# Altium footprint library Connector_Wire.PcbLib: 290 footprints (part 13 of 19)
Each footprint in its own frame and in the unit in brackets; x right, y up, seen from the top. Pads: shape width x height; smd on the part's side, far side on the other; paste and mask are expansions set on the pad; w line width, h text height; cw(c..) or ccw(c..) is an arc to the next point about the centre after c.
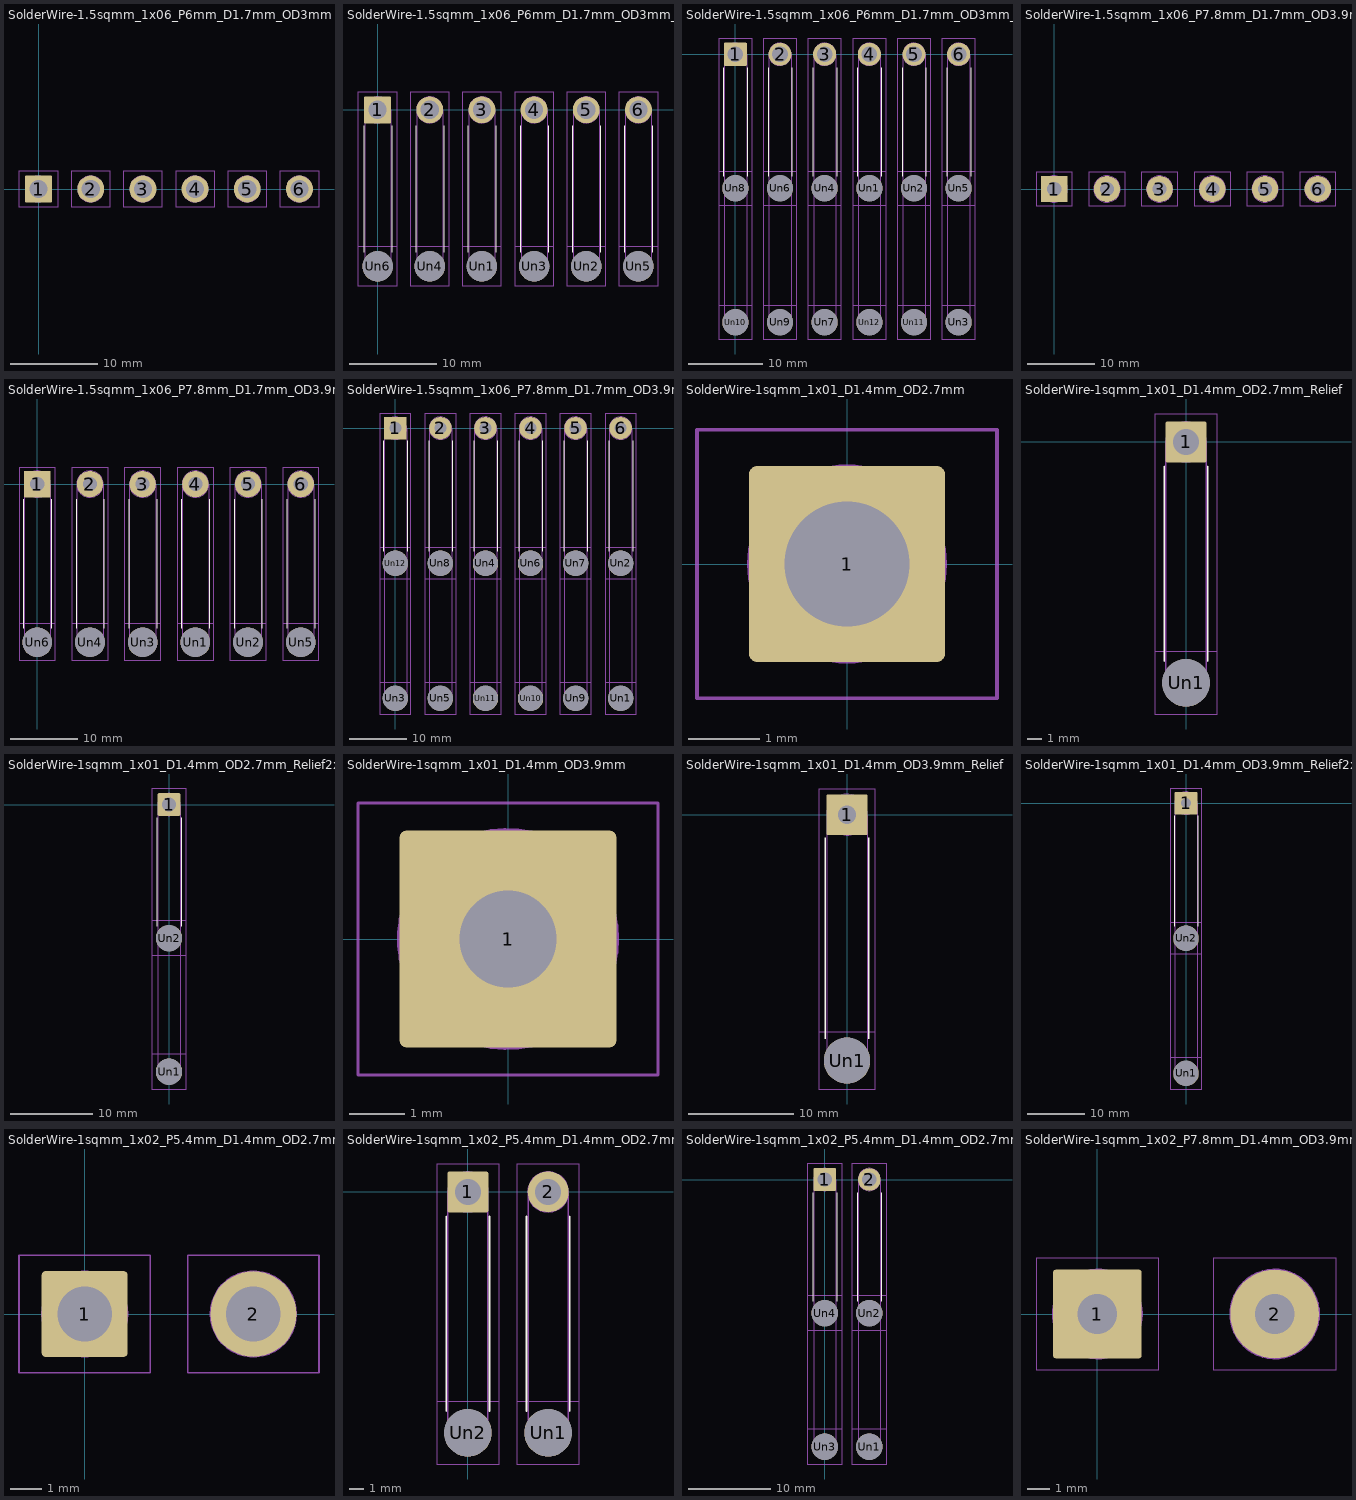
[diagram p12: the footprints below, top view; thin cyan lines are the x and y axes]

## SolderWire-1.5sqmm_1x06_P6mm_D1.7mm_OD3mm [mm]
pads (6):
  rrect8% 3.1x3.1 hole 2.1: 1(0,0)
  round 3.1 hole 2.1: 2(6,0) 3(12,0) 4(18,0) 5(24,0) 6(30,0)
F.CrtYd:
  lines w0.05: -2.25,-2.05 2.25,-2.05 2.25,2.05 -2.25,2.05 -2.25,-2.05 ; 3.75,-2.05 8.25,-2.05 8.25,2.05 3.75,2.05 3.75,-2.05 ; 9.75,-2.05 9.75,2.05 14.25,2.05 14.25,-2.05 9.75,-2.05 ; 15.75,-2.05 20.25,-2.05 20.25,2.05 15.75,2.05 15.75,-2.05 ; 21.75,-2.05 26.25,-2.05 26.25,2.05 21.75,2.05 21.75,-2.05 ; 27.75,-2.05 32.25,-2.05 32.25,2.05 27.75,2.05 27.75,-2.05
F.Fab:
  circle w0.1: c0,0 r1.5
  circle w0.1: c30,0 r1.5
  circle w0.1: c24,0 r1.5
  circle w0.1: c12,0 r1.5
  circle w0.1: c6,0 r1.5
  circle w0.1: c18,0 r1.5
  text "'.Designator'" at 15.84,-4.047 h1

## SolderWire-1.5sqmm_1x06_P6mm_D1.7mm_OD3mm_Relief [mm]
pads (12):
  rrect8% 3.1x3.1 hole 2.1: 1(0,0)
  round 3.1 hole 2.1: 2(6,0) 3(12,0) 4(18,0) 5(24,0) 6(30,0)
  round 3.5 hole 3.5: Un1(12,-18) Un2(24,-18) Un3(18,-18) Un4(6,-18) Un5(30,-18) Un6(0,-18)
F.SilkS:
  lines w0.12: -1.61,-16.39 -1.61,-1.81 ; 1.61,-16.39 1.61,-1.81 ; 4.39,-16.39 4.39,-1.81 ; 7.61,-16.39 7.61,-1.81 ; 10.39,-16.39 10.39,-1.81 ; 13.61,-16.39 13.61,-1.81 ; 16.39,-16.39 16.39,-1.81 ; 19.61,-16.39 19.61,-1.81 ; 22.39,-16.39 22.39,-1.81 ; 25.61,-16.39 25.61,-1.81 ; 28.39,-16.39 28.39,-1.81 ; 31.61,-16.39 31.61,-1.81
B.CrtYd:
  lines w0.05: -2.25,-20.25 -2.25,-15.75 2.25,-15.75 2.25,-20.25 -2.25,-20.25 ; 3.75,-20.25 8.25,-20.25 8.25,-15.75 3.75,-15.75 3.75,-20.25 ; 9.75,-20.25 9.75,-15.75 14.25,-15.75 14.25,-20.25 9.75,-20.25 ; 15.75,-20.25 20.25,-20.25 20.25,-15.75 15.75,-15.75 15.75,-20.25 ; 21.75,-20.25 26.25,-20.25 26.25,-15.75 21.75,-15.75 21.75,-20.25 ; 27.75,-20.25 32.25,-20.25 32.25,-15.75 27.75,-15.75 27.75,-20.25
F.CrtYd:
  lines w0.05: -2.25,-20.25 2.25,-20.25 2.25,2.05 -2.25,2.05 -2.25,-20.25 ; 3.75,-20.25 3.75,2.05 8.25,2.05 8.25,-20.25 3.75,-20.25 ; 9.75,-20.25 14.25,-20.25 14.25,2.05 9.75,2.05 9.75,-20.25 ; 15.75,-20.25 15.75,2.05 20.25,2.05 20.25,-20.25 15.75,-20.25 ; 21.75,-20.25 21.75,2.05 26.25,2.05 26.25,-20.25 21.75,-20.25 ; 27.75,-20.25 32.25,-20.25 32.25,2.05 27.75,2.05 27.75,-20.25
F.Fab:
  circle w0.1: c18,0 r1.5
  circle w0.1: c12,-18 r1.5
  circle w0.1: c6,-18 r1.5
  circle w0.1: c12,0 r1.5
  circle w0.1: c6,0 r1.5
  circle w0.1: c0,0 r1.5
  circle w0.1: c30,0 r1.5
  circle w0.1: c24,-18 r1.5
  circle w0.1: c18,-18 r1.5
  circle w0.1: c0,-18 r1.5
  circle w0.1: c24,0 r1.5
  circle w0.1: c30,-18 r1.5
  lines w0.1: -1.5,-18 -1.5,0 ; 1.5,-18 1.5,0 ; 4.5,-18 4.5,0 ; 7.5,-18 7.5,0 ; 10.5,-18 10.5,0 ; 13.5,-18 13.5,0 ; 16.5,-18 16.5,0 ; 19.5,-18 19.5,0 ; 22.5,-18 22.5,0 ; 25.5,-18 25.5,0 ; 28.5,-18 28.5,0 ; 31.5,-18 31.5,0
  text "'.Designator'" at 15.84,-13.047 h1

## SolderWire-1.5sqmm_1x06_P6mm_D1.7mm_OD3mm_Relief2x [mm]
pads (18):
  rrect8% 3.1x3.1 hole 2.1: 1(0,0)
  round 3.1 hole 2.1: 2(6,0) 3(12,0) 4(18,0) 5(24,0) 6(30,0)
  round 3.5 hole 3.5: Un1(18,-18) Un2(24,-18) Un3(30,-36) Un4(12,-18) Un5(30,-18) Un6(6,-18) Un7(12,-36) Un8(0,-18) Un9(6,-36) Un10(0,-36) Un11(24,-36) Un12(18,-36)
F.SilkS:
  lines w0.12: -1.61,-16.39 -1.61,-1.81 ; 1.61,-16.39 1.61,-1.81 ; 4.39,-16.39 4.39,-1.81 ; 7.61,-16.39 7.61,-1.81 ; 10.39,-16.39 10.39,-1.81 ; 13.61,-16.39 13.61,-1.81 ; 16.39,-16.39 16.39,-1.81 ; 19.61,-16.39 19.61,-1.81 ; 22.39,-16.39 22.39,-1.81 ; 25.61,-16.39 25.61,-1.81 ; 28.39,-16.39 28.39,-1.81 ; 31.61,-16.39 31.61,-1.81
B.SilkS:
  lines w0.12: -1.61,-34.39 -1.61,-19.61 ; 1.61,-34.39 1.61,-19.61 ; 4.39,-34.39 4.39,-19.61 ; 7.61,-34.39 7.61,-19.61 ; 10.39,-34.39 10.39,-19.61 ; 13.61,-34.39 13.61,-19.61 ; 16.39,-34.39 16.39,-19.61 ; 19.61,-34.39 19.61,-19.61 ; 22.39,-34.39 22.39,-19.61 ; 25.61,-34.39 25.61,-19.61 ; 28.39,-34.39 28.39,-19.61 ; 31.61,-34.39 31.61,-19.61
B.CrtYd:
  lines w0.05: -2.25,-38.25 2.25,-38.25 2.25,-15.75 -2.25,-15.75 -2.25,-38.25 ; 3.75,-38.25 3.75,-15.75 8.25,-15.75 8.25,-38.25 3.75,-38.25 ; 9.75,-38.25 14.25,-38.25 14.25,-15.75 9.75,-15.75 9.75,-38.25 ; 15.75,-38.25 20.25,-38.25 20.25,-15.75 15.75,-15.75 15.75,-38.25 ; 21.75,-38.25 26.25,-38.25 26.25,-15.75 21.75,-15.75 21.75,-38.25 ; 27.75,-38.25 27.75,-15.75 32.25,-15.75 32.25,-38.25 27.75,-38.25
F.CrtYd:
  lines w0.05: -2.25,-38.25 2.25,-38.25 2.25,-33.75 -2.25,-33.75 -2.25,-38.25 ; -2.25,-20.25 -2.25,2.05 2.25,2.05 2.25,-20.25 -2.25,-20.25 ; 3.75,-38.25 8.25,-38.25 8.25,-33.75 3.75,-33.75 3.75,-38.25 ; 3.75,-20.25 8.25,-20.25 8.25,2.05 3.75,2.05 3.75,-20.25 ; 9.75,-38.25 14.25,-38.25 14.25,-33.75 9.75,-33.75 9.75,-38.25 ; 9.75,-20.25 14.25,-20.25 14.25,2.05 9.75,2.05 9.75,-20.25 ; 15.75,-38.25 20.25,-38.25 20.25,-33.75 15.75,-33.75 15.75,-38.25 ; 15.75,-20.25 20.25,-20.25 20.25,2.05 15.75,2.05 15.75,-20.25 ; 21.75,-38.25 26.25,-38.25 26.25,-33.75 21.75,-33.75 21.75,-38.25 ; 21.75,-20.25 26.25,-20.25 26.25,2.05 21.75,2.05 21.75,-20.25 ; 27.75,-38.25 27.75,-33.75 32.25,-33.75 32.25,-38.25 27.75,-38.25 ; 27.75,-20.25 27.75,2.05 32.25,2.05 32.25,-20.25 27.75,-20.25
B.Fab:
  circle w0.1: c12,-36 r1.5
  circle w0.1: c6,-18 r1.5
  circle w0.1: c18,-36 r1.5
  circle w0.1: c24,-36 r1.5
  circle w0.1: c6,-36 r1.5
  circle w0.1: c18,-18 r1.5
  circle w0.1: c0,-36 r1.5
  circle w0.1: c30,-36 r1.5
  circle w0.1: c24,-18 r1.5
  circle w0.1: c12,-18 r1.5
  circle w0.1: c0,-18 r1.5
  circle w0.1: c30,-18 r1.5
  lines w0.1: -1.5,-36 -1.5,-18 ; 1.5,-36 1.5,-18 ; 4.5,-36 4.5,-18 ; 7.5,-36 7.5,-18 ; 10.5,-36 10.5,-18 ; 13.5,-36 13.5,-18 ; 16.5,-36 16.5,-18 ; 19.5,-36 19.5,-18 ; 22.5,-36 22.5,-18 ; 25.5,-36 25.5,-18 ; 28.5,-36 28.5,-18 ; 31.5,-36 31.5,-18
F.Fab:
  circle w0.1: c24,0 r1.5
  circle w0.1: c18,0 r1.5
  circle w0.1: c12,-36 r1.5
  circle w0.1: c30,-18 r1.5
  circle w0.1: c0,-18 r1.5
  circle w0.1: c6,-36 r1.5
  circle w0.1: c30,-36 r1.5
  circle w0.1: c6,-18 r1.5
  circle w0.1: c0,-36 r1.5
  circle w0.1: c0,0 r1.5
  circle w0.1: c6,0 r1.5
  circle w0.1: c24,-36 r1.5
  circle w0.1: c24,-18 r1.5
  circle w0.1: c18,-36 r1.5
  circle w0.1: c12,-18 r1.5
  circle w0.1: c30,0 r1.5
  circle w0.1: c18,-18 r1.5
  circle w0.1: c12,0 r1.5
  lines w0.1: -1.5,-18 -1.5,0 ; 1.5,-18 1.5,0 ; 4.5,-18 4.5,0 ; 7.5,-18 7.5,0 ; 10.5,-18 10.5,0 ; 13.5,-18 13.5,0 ; 16.5,-18 16.5,0 ; 19.5,-18 19.5,0 ; 22.5,-18 22.5,0 ; 25.5,-18 25.5,0 ; 28.5,-18 28.5,0 ; 31.5,-18 31.5,0
  text "'.Designator'" at 15.84,-13.047 h1

## SolderWire-1.5sqmm_1x06_P7.8mm_D1.7mm_OD3.9mm [mm]
pads (6):
  rrect6% 3.9x3.9 hole 2.1: 1(0,0)
  round 3.9 hole 2.1: 2(7.8,0) 3(15.6,0) 4(23.4,0) 5(31.2,0) 6(39,0)
F.CrtYd:
  lines w0.05: -2.7,-2.45 -2.7,2.45 2.7,2.45 2.7,-2.45 -2.7,-2.45 ; 5.1,-2.45 10.5,-2.45 10.5,2.45 5.1,2.45 5.1,-2.45 ; 12.9,-2.45 18.3,-2.45 18.3,2.45 12.9,2.45 12.9,-2.45 ; 20.7,-2.45 20.7,2.45 26.1,2.45 26.1,-2.45 20.7,-2.45 ; 28.5,-2.45 33.9,-2.45 33.9,2.45 28.5,2.45 28.5,-2.45 ; 36.3,-2.45 36.3,2.45 41.7,2.45 41.7,-2.45 36.3,-2.45
F.Fab:
  circle w0.1: c31.2,0 r1.95
  circle w0.1: c15.6,0 r1.95
  circle w0.1: c7.8,0 r1.95
  circle w0.1: c39,0 r1.95
  circle w0.1: c23.4,0 r1.95
  circle w0.1: c0,0 r1.95
  text "'.Designator'" at 20.34,-4.047 h1

## SolderWire-1.5sqmm_1x06_P7.8mm_D1.7mm_OD3.9mm_Relief [mm]
pads (12):
  rrect6% 3.9x3.9 hole 2.1: 1(0,0)
  round 3.9 hole 2.1: 2(7.8,0) 3(15.6,0) 4(23.4,0) 5(31.2,0) 6(39,0)
  round 4.4 hole 4.4: Un1(23.4,-23.4) Un2(31.2,-23.4) Un3(15.6,-23.4) Un4(7.8,-23.4) Un5(39,-23.4) Un6(0,-23.4)
F.SilkS:
  lines w0.12: -2.06,-21.34 -2.06,-2.21 ; 2.06,-21.34 2.06,-2.21 ; 5.74,-21.34 5.74,-2.21 ; 9.86,-21.34 9.86,-2.21 ; 13.54,-21.34 13.54,-2.21 ; 17.66,-21.34 17.66,-2.21 ; 21.34,-21.34 21.34,-2.21 ; 25.46,-21.34 25.46,-2.21 ; 29.14,-21.34 29.14,-2.21 ; 33.26,-21.34 33.26,-2.21 ; 36.94,-21.34 36.94,-2.21 ; 41.06,-21.34 41.06,-2.21
B.CrtYd:
  lines w0.05: -2.7,-26.1 2.7,-26.1 2.7,-20.7 -2.7,-20.7 -2.7,-26.1 ; 5.1,-26.1 10.5,-26.1 10.5,-20.7 5.1,-20.7 5.1,-26.1 ; 12.9,-26.1 18.3,-26.1 18.3,-20.7 12.9,-20.7 12.9,-26.1 ; 20.7,-26.1 26.1,-26.1 26.1,-20.7 20.7,-20.7 20.7,-26.1 ; 28.5,-26.1 33.9,-26.1 33.9,-20.7 28.5,-20.7 28.5,-26.1 ; 36.3,-26.1 36.3,-20.7 41.7,-20.7 41.7,-26.1 36.3,-26.1
F.CrtYd:
  lines w0.05: -2.7,-26.1 -2.7,2.45 2.7,2.45 2.7,-26.1 -2.7,-26.1 ; 5.1,-26.1 10.5,-26.1 10.5,2.45 5.1,2.45 5.1,-26.1 ; 12.9,-26.1 12.9,2.45 18.3,2.45 18.3,-26.1 12.9,-26.1 ; 20.7,-26.1 20.7,2.45 26.1,2.45 26.1,-26.1 20.7,-26.1 ; 28.5,-26.1 33.9,-26.1 33.9,2.45 28.5,2.45 28.5,-26.1 ; 36.3,-26.1 41.7,-26.1 41.7,2.45 36.3,2.45 36.3,-26.1
F.Fab:
  circle w0.1: c39,-23.4 r1.95
  circle w0.1: c0,-23.4 r1.95
  circle w0.1: c7.8,-23.4 r1.95
  circle w0.1: c23.4,-23.4 r1.95
  circle w0.1: c15.6,0 r1.95
  circle w0.1: c39,0 r1.95
  circle w0.1: c15.6,-23.4 r1.95
  circle w0.1: c23.4,0 r1.95
  circle w0.1: c31.2,0 r1.95
  circle w0.1: c0,0 r1.95
  circle w0.1: c31.2,-23.4 r1.95
  circle w0.1: c7.8,0 r1.95
  lines w0.1: -1.95,-23.4 -1.95,0 ; 1.95,-23.4 1.95,0 ; 5.85,-23.4 5.85,0 ; 9.75,-23.4 9.75,0 ; 13.65,-23.4 13.65,0 ; 17.55,-23.4 17.55,0 ; 21.45,-23.4 21.45,0 ; 25.35,-23.4 25.35,0 ; 29.25,-23.4 29.25,0 ; 33.15,-23.4 33.15,0 ; 37.05,-23.4 37.05,0 ; 40.95,-23.4 40.95,0
  text "'.Designator'" at 20.34,-15.747 h1

## SolderWire-1.5sqmm_1x06_P7.8mm_D1.7mm_OD3.9mm_Relief2x [mm]
pads (18):
  rrect6% 3.9x3.9 hole 2.1: 1(0,0)
  round 3.9 hole 2.1: 2(7.8,0) 3(15.6,0) 4(23.4,0) 5(31.2,0) 6(39,0)
  round 4.4 hole 4.4: Un1(39,-46.8) Un2(39,-23.4) Un3(0,-46.8) Un4(15.6,-23.4) Un5(7.8,-46.8) Un6(23.4,-23.4) Un7(31.2,-23.4) Un8(7.8,-23.4) Un9(31.2,-46.8) Un10(23.4,-46.8) Un11(15.6,-46.8) Un12(0,-23.4)
F.SilkS:
  lines w0.12: -2.06,-21.34 -2.06,-2.21 ; 2.06,-21.34 2.06,-2.21 ; 5.74,-21.34 5.74,-2.21 ; 9.86,-21.34 9.86,-2.21 ; 13.54,-21.34 13.54,-2.21 ; 17.66,-21.34 17.66,-2.21 ; 21.34,-21.34 21.34,-2.21 ; 25.46,-21.34 25.46,-2.21 ; 29.14,-21.34 29.14,-2.21 ; 33.26,-21.34 33.26,-2.21 ; 36.94,-21.34 36.94,-2.21 ; 41.06,-21.34 41.06,-2.21
B.SilkS:
  lines w0.12: -2.06,-44.74 -2.06,-25.46 ; 2.06,-44.74 2.06,-25.46 ; 5.74,-44.74 5.74,-25.46 ; 9.86,-44.74 9.86,-25.46 ; 13.54,-44.74 13.54,-25.46 ; 17.66,-44.74 17.66,-25.46 ; 21.34,-44.74 21.34,-25.46 ; 25.46,-44.74 25.46,-25.46 ; 29.14,-44.74 29.14,-25.46 ; 33.26,-44.74 33.26,-25.46 ; 36.94,-44.74 36.94,-25.46 ; 41.06,-44.74 41.06,-25.46
B.CrtYd:
  lines w0.05: -2.7,-49.5 2.7,-49.5 2.7,-20.7 -2.7,-20.7 -2.7,-49.5 ; 5.1,-49.5 10.5,-49.5 10.5,-20.7 5.1,-20.7 5.1,-49.5 ; 12.9,-49.5 12.9,-20.7 18.3,-20.7 18.3,-49.5 12.9,-49.5 ; 20.7,-49.5 20.7,-20.7 26.1,-20.7 26.1,-49.5 20.7,-49.5 ; 28.5,-49.5 33.9,-49.5 33.9,-20.7 28.5,-20.7 28.5,-49.5 ; 36.3,-49.5 41.7,-49.5 41.7,-20.7 36.3,-20.7 36.3,-49.5
F.CrtYd:
  lines w0.05: -2.7,-49.5 2.7,-49.5 2.7,-44.1 -2.7,-44.1 -2.7,-49.5 ; -2.7,-26.1 2.7,-26.1 2.7,2.45 -2.7,2.45 -2.7,-26.1 ; 5.1,-49.5 5.1,-44.1 10.5,-44.1 10.5,-49.5 5.1,-49.5 ; 5.1,-26.1 5.1,2.45 10.5,2.45 10.5,-26.1 5.1,-26.1 ; 12.9,-49.5 12.9,-44.1 18.3,-44.1 18.3,-49.5 12.9,-49.5 ; 12.9,-26.1 18.3,-26.1 18.3,2.45 12.9,2.45 12.9,-26.1 ; 20.7,-49.5 26.1,-49.5 26.1,-44.1 20.7,-44.1 20.7,-49.5 ; 20.7,-26.1 26.1,-26.1 26.1,2.45 20.7,2.45 20.7,-26.1 ; 28.5,-49.5 33.9,-49.5 33.9,-44.1 28.5,-44.1 28.5,-49.5 ; 28.5,-26.1 33.9,-26.1 33.9,2.45 28.5,2.45 28.5,-26.1 ; 36.3,-49.5 41.7,-49.5 41.7,-44.1 36.3,-44.1 36.3,-49.5 ; 36.3,-26.1 36.3,2.45 41.7,2.45 41.7,-26.1 36.3,-26.1
B.Fab:
  circle w0.1: c39,-23.4 r1.95
  circle w0.1: c15.6,-46.8 r1.95
  circle w0.1: c7.8,-23.4 r1.95
  circle w0.1: c15.6,-23.4 r1.95
  circle w0.1: c31.2,-46.8 r1.95
  circle w0.1: c7.8,-46.8 r1.95
  circle w0.1: c39,-46.8 r1.95
  circle w0.1: c0,-46.8 r1.95
  circle w0.1: c23.4,-46.8 r1.95
  circle w0.1: c0,-23.4 r1.95
  circle w0.1: c31.2,-23.4 r1.95
  circle w0.1: c23.4,-23.4 r1.95
  lines w0.1: -1.95,-46.8 -1.95,-23.4 ; 1.95,-46.8 1.95,-23.4 ; 5.85,-46.8 5.85,-23.4 ; 9.75,-46.8 9.75,-23.4 ; 13.65,-46.8 13.65,-23.4 ; 17.55,-46.8 17.55,-23.4 ; 21.45,-46.8 21.45,-23.4 ; 25.35,-46.8 25.35,-23.4 ; 29.25,-46.8 29.25,-23.4 ; 33.15,-46.8 33.15,-23.4 ; 37.05,-46.8 37.05,-23.4 ; 40.95,-46.8 40.95,-23.4
F.Fab:
  circle w0.1: c7.8,-23.4 r1.95
  circle w0.1: c23.4,-46.8 r1.95
  circle w0.1: c7.8,-46.8 r1.95
  circle w0.1: c23.4,0 r1.95
  circle w0.1: c0,-46.8 r1.95
  circle w0.1: c0,-23.4 r1.95
  circle w0.1: c15.6,-23.4 r1.95
  circle w0.1: c7.8,0 r1.95
  circle w0.1: c15.6,0 r1.95
  circle w0.1: c0,0 r1.95
  circle w0.1: c39,0 r1.95
  circle w0.1: c31.2,0 r1.95
  circle w0.1: c31.2,-23.4 r1.95
  circle w0.1: c23.4,-23.4 r1.95
  circle w0.1: c31.2,-46.8 r1.95
  circle w0.1: c39,-23.4 r1.95
  circle w0.1: c15.6,-46.8 r1.95
  circle w0.1: c39,-46.8 r1.95
  lines w0.1: -1.95,-23.4 -1.95,0 ; 1.95,-23.4 1.95,0 ; 5.85,-23.4 5.85,0 ; 9.75,-23.4 9.75,0 ; 13.65,-23.4 13.65,0 ; 17.55,-23.4 17.55,0 ; 21.45,-23.4 21.45,0 ; 25.35,-23.4 25.35,0 ; 29.25,-23.4 29.25,0 ; 33.15,-23.4 33.15,0 ; 37.05,-23.4 37.05,0 ; 40.95,-23.4 40.95,0
  text "'.Designator'" at 20.34,-15.747 h1

## SolderWire-1sqmm_1x01_D1.4mm_OD2.7mm [mm]
pads (1):
  rrect9% 2.75x2.75 hole 1.75: 1(0,0)
F.CrtYd:
  lines w0.05: -2.1,-1.88 2.1,-1.88 2.1,1.88 -2.1,1.88 -2.1,-1.88
F.Fab:
  circle w0.1: c0,0 r1.35
  text "'.Designator'" at -2.75,-0.569 h0.68

## SolderWire-1sqmm_1x01_D1.4mm_OD2.7mm_Relief [mm]
pads (2):
  rrect9% 2.75x2.75 hole 1.75: 1(0,0)
  round 3.2 hole 3.2: Un1(0,-16.2)
F.SilkS:
  lines w0.12: -1.46,-14.74 -1.46,-1.635 ; 1.46,-14.74 1.46,-1.635
B.CrtYd:
  lines w0.05: -2.1,-18.3 -2.1,-14.1 2.1,-14.1 2.1,-18.3 -2.1,-18.3
F.CrtYd:
  lines w0.05: -2.1,-18.3 -2.1,1.88 2.1,1.88 2.1,-18.3 -2.1,-18.3
F.Fab:
  circle w0.1: c0,-16.2 r1.35
  circle w0.1: c0,0 r1.35
  lines w0.1: -1.35,-16.2 -1.35,0 ; 1.35,-16.2 1.35,0
  text "'.Designator'" at 0.84,-12.147 h1

## SolderWire-1sqmm_1x01_D1.4mm_OD2.7mm_Relief2x [mm]
pads (3):
  rrect9% 2.75x2.75 hole 1.75: 1(0,0)
  round 3.2 hole 3.2: Un1(0,-32.4) Un2(0,-16.2)
F.SilkS:
  lines w0.12: -1.46,-14.74 -1.46,-1.635 ; 1.46,-14.74 1.46,-1.635
B.SilkS:
  lines w0.12: -1.46,-30.94 -1.46,-17.66 ; 1.46,-30.94 1.46,-17.66
B.CrtYd:
  lines w0.05: -2.1,-34.5 2.1,-34.5 2.1,-14.1 -2.1,-14.1 -2.1,-34.5
F.CrtYd:
  lines w0.05: -2.1,-34.5 2.1,-34.5 2.1,-30.3 -2.1,-30.3 -2.1,-34.5 ; -2.1,-18.3 2.1,-18.3 2.1,1.88 -2.1,1.88 -2.1,-18.3
B.Fab:
  circle w0.1: c0,-32.4 r1.35
  circle w0.1: c0,-16.2 r1.35
  lines w0.1: -1.35,-32.4 -1.35,-16.2 ; 1.35,-32.4 1.35,-16.2
F.Fab:
  circle w0.1: c0,-32.4 r1.35
  circle w0.1: c0,-16.2 r1.35
  circle w0.1: c0,0 r1.35
  lines w0.1: -1.35,-16.2 -1.35,0 ; 1.35,-16.2 1.35,0
  text "'.Designator'" at 0.84,-12.147 h1

## SolderWire-1sqmm_1x01_D1.4mm_OD3.9mm [mm]
pads (1):
  rrect6% 3.9x3.9 hole 1.75: 1(0,0)
F.CrtYd:
  lines w0.05: -2.7,-2.45 -2.7,2.45 2.7,2.45 2.7,-2.45 -2.7,-2.45
F.Fab:
  circle w0.1: c0,0 r1.95
  text "'.Designator'" at -3.969,-0.827 h0.98

## SolderWire-1sqmm_1x01_D1.4mm_OD3.9mm_Relief [mm]
pads (2):
  rrect6% 3.9x3.9 hole 1.75: 1(0,0)
  round 4.4 hole 4.4: Un1(0,-23.4)
F.SilkS:
  lines w0.12: -2.06,-21.34 -2.06,-2.21 ; 2.06,-21.34 2.06,-2.21
B.CrtYd:
  lines w0.05: -2.7,-26.1 -2.7,-20.7 2.7,-20.7 2.7,-26.1 -2.7,-26.1
F.CrtYd:
  lines w0.05: -2.7,-26.1 -2.7,2.45 2.7,2.45 2.7,-26.1 -2.7,-26.1
F.Fab:
  circle w0.1: c0,-23.4 r1.95
  circle w0.1: c0,0 r1.95
  lines w0.1: -1.95,-23.4 -1.95,0 ; 1.95,-23.4 1.95,0
  text "'.Designator'" at 0.84,-15.747 h1

## SolderWire-1sqmm_1x01_D1.4mm_OD3.9mm_Relief2x [mm]
pads (3):
  rrect6% 3.9x3.9 hole 1.75: 1(0,0)
  round 4.4 hole 4.4: Un1(0,-46.8) Un2(0,-23.4)
F.SilkS:
  lines w0.12: -2.06,-21.34 -2.06,-2.21 ; 2.06,-21.34 2.06,-2.21
B.SilkS:
  lines w0.12: -2.06,-44.74 -2.06,-25.46 ; 2.06,-44.74 2.06,-25.46
B.CrtYd:
  lines w0.05: -2.7,-49.5 2.7,-49.5 2.7,-20.7 -2.7,-20.7 -2.7,-49.5
F.CrtYd:
  lines w0.05: -2.7,-49.5 2.7,-49.5 2.7,-44.1 -2.7,-44.1 -2.7,-49.5 ; -2.7,-26.1 2.7,-26.1 2.7,2.45 -2.7,2.45 -2.7,-26.1
B.Fab:
  circle w0.1: c0,-23.4 r1.95
  circle w0.1: c0,-46.8 r1.95
  lines w0.1: -1.95,-46.8 -1.95,-23.4 ; 1.95,-46.8 1.95,-23.4
F.Fab:
  circle w0.1: c0,-46.8 r1.95
  circle w0.1: c0,-23.4 r1.95
  circle w0.1: c0,0 r1.95
  lines w0.1: -1.95,-23.4 -1.95,0 ; 1.95,-23.4 1.95,0
  text "'.Designator'" at 0.84,-15.747 h1

## SolderWire-1sqmm_1x02_P5.4mm_D1.4mm_OD2.7mm [mm]
pads (2):
  rrect9% 2.75x2.75 hole 1.75: 1(0,0)
  round 2.75 hole 1.75: 2(5.4,0)
F.CrtYd:
  lines w0.05: -2.1,-1.88 -2.1,1.88 2.1,1.88 2.1,-1.88 -2.1,-1.88 ; 3.3,-1.88 7.5,-1.88 7.5,1.88 3.3,1.88 3.3,-1.88
F.Fab:
  circle w0.1: c0,0 r1.35
  circle w0.1: c5.4,0 r1.35
  text "'.Designator'" at 3.489,-3.803 h0.94

## SolderWire-1sqmm_1x02_P5.4mm_D1.4mm_OD2.7mm_Relief [mm]
pads (4):
  rrect9% 2.75x2.75 hole 1.75: 1(0,0)
  round 2.75 hole 1.75: 2(5.4,0)
  round 3.2 hole 3.2: Un1(5.4,-16.2) Un2(0,-16.2)
F.SilkS:
  lines w0.12: -1.46,-14.74 -1.46,-1.635 ; 1.46,-14.74 1.46,-1.635 ; 3.94,-14.74 3.94,-1.635 ; 6.86,-14.74 6.86,-1.635
B.CrtYd:
  lines w0.05: -2.1,-18.3 -2.1,-14.1 2.1,-14.1 2.1,-18.3 -2.1,-18.3 ; 3.3,-18.3 7.5,-18.3 7.5,-14.1 3.3,-14.1 3.3,-18.3
F.CrtYd:
  lines w0.05: -2.1,-18.3 -2.1,1.88 2.1,1.88 2.1,-18.3 -2.1,-18.3 ; 3.3,-18.3 3.3,1.88 7.5,1.88 7.5,-18.3 3.3,-18.3
F.Fab:
  circle w0.1: c0,0 r1.35
  circle w0.1: c0,-16.2 r1.35
  circle w0.1: c5.4,-16.2 r1.35
  circle w0.1: c5.4,0 r1.35
  lines w0.1: -1.35,-16.2 -1.35,0 ; 1.35,-16.2 1.35,0 ; 4.05,-16.2 4.05,0 ; 6.75,-16.2 6.75,0
  text "'.Designator'" at 3.54,-12.147 h1

## SolderWire-1sqmm_1x02_P5.4mm_D1.4mm_OD2.7mm_Relief2x [mm]
pads (6):
  rrect9% 2.75x2.75 hole 1.75: 1(0,0)
  round 2.75 hole 1.75: 2(5.4,0)
  round 3.2 hole 3.2: Un1(5.4,-32.4) Un2(5.4,-16.2) Un3(0,-32.4) Un4(0,-16.2)
F.SilkS:
  lines w0.12: -1.46,-14.74 -1.46,-1.635 ; 1.46,-14.74 1.46,-1.635 ; 3.94,-14.74 3.94,-1.635 ; 6.86,-14.74 6.86,-1.635
B.SilkS:
  lines w0.12: -1.46,-30.94 -1.46,-17.66 ; 1.46,-30.94 1.46,-17.66 ; 3.94,-30.94 3.94,-17.66 ; 6.86,-30.94 6.86,-17.66
B.CrtYd:
  lines w0.05: -2.1,-34.5 -2.1,-14.1 2.1,-14.1 2.1,-34.5 -2.1,-34.5 ; 3.3,-34.5 3.3,-14.1 7.5,-14.1 7.5,-34.5 3.3,-34.5
F.CrtYd:
  lines w0.05: -2.1,-34.5 -2.1,-30.3 2.1,-30.3 2.1,-34.5 -2.1,-34.5 ; -2.1,-18.3 2.1,-18.3 2.1,1.88 -2.1,1.88 -2.1,-18.3 ; 3.3,-34.5 7.5,-34.5 7.5,-30.3 3.3,-30.3 3.3,-34.5 ; 3.3,-18.3 3.3,1.88 7.5,1.88 7.5,-18.3 3.3,-18.3
B.Fab:
  circle w0.1: c0,-32.4 r1.35
  circle w0.1: c5.4,-32.4 r1.35
  circle w0.1: c0,-16.2 r1.35
  circle w0.1: c5.4,-16.2 r1.35
  lines w0.1: -1.35,-32.4 -1.35,-16.2 ; 1.35,-32.4 1.35,-16.2 ; 4.05,-32.4 4.05,-16.2 ; 6.75,-32.4 6.75,-16.2
F.Fab:
  circle w0.1: c5.4,0 r1.35
  circle w0.1: c0,-32.4 r1.35
  circle w0.1: c0,0 r1.35
  circle w0.1: c5.4,-16.2 r1.35
  circle w0.1: c5.4,-32.4 r1.35
  circle w0.1: c0,-16.2 r1.35
  lines w0.1: -1.35,-16.2 -1.35,0 ; 1.35,-16.2 1.35,0 ; 4.05,-16.2 4.05,0 ; 6.75,-16.2 6.75,0
  text "'.Designator'" at 3.54,-12.147 h1

## SolderWire-1sqmm_1x02_P7.8mm_D1.4mm_OD3.9mm [mm]
pads (2):
  rrect6% 3.9x3.9 hole 1.75: 1(0,0)
  round 3.9 hole 1.75: 2(7.8,0)
F.CrtYd:
  lines w0.05: -2.7,-2.45 2.7,-2.45 2.7,2.45 -2.7,2.45 -2.7,-2.45 ; 5.1,-2.45 5.1,2.45 10.5,2.45 10.5,-2.45 5.1,-2.45
F.Fab:
  circle w0.1: c7.8,0 r1.95
  circle w0.1: c0,0 r1.95
  text "'.Designator'" at 4.74,-4.047 h1